# Altium schematic symbol library PESD24VL2BT_215.SchLib: 1 symbol
Pins are listed as number, name and electrical type; pins without a type are passive.

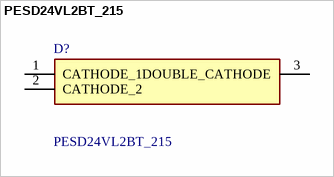
[diagram p0: symbol PESD24VL2BT_215]

## PESD24VL2BT_215
designator D?
PESD24VL2BT - Low capacitance double bidirectional ESD protection diode in SOT23; Manufacturer_Name: Nexperia; Manufacturer_Part_Number: PESD24VL2BT,215; Geometry.Height: 1.1mm; Mouser Part Number: 771-PESD24VL2BT-T/R; Mouser Price/Stock: https://www.mouser.co.uk/ProductDetail/Nexperia/PESD24VL2BT215?qs=LOCUfHb8d9slCEPsGAMisw%3D%3D; Arrow Part Number: PESD24VL2BT,215; Arrow Price/Stock: https://www.arrow.com/en/products/pesd24vl2bt215/nexperia?region=nac; Datasheet Link: https://assets.nexperia.com/documents/data-sheet/PESDXL2BT_SER.pdf
footprint SOT95P230X110-3N
pins: 1 CATHODE_1, 2 CATHODE_2, 3 DOUBLE_CATHODE